# Altium footprint library Heat Sinks.PcbLib: 1 footprints
Each footprint in its own frame and in the unit in brackets; x right, y up, seen from the top. Pads: shape width x height; smd on the part's side, far side on the other; paste and mask are expansions set on the pad; w line width, h text height; cw(c..) or ccw(c..) is an arc to the next point about the centre after c.
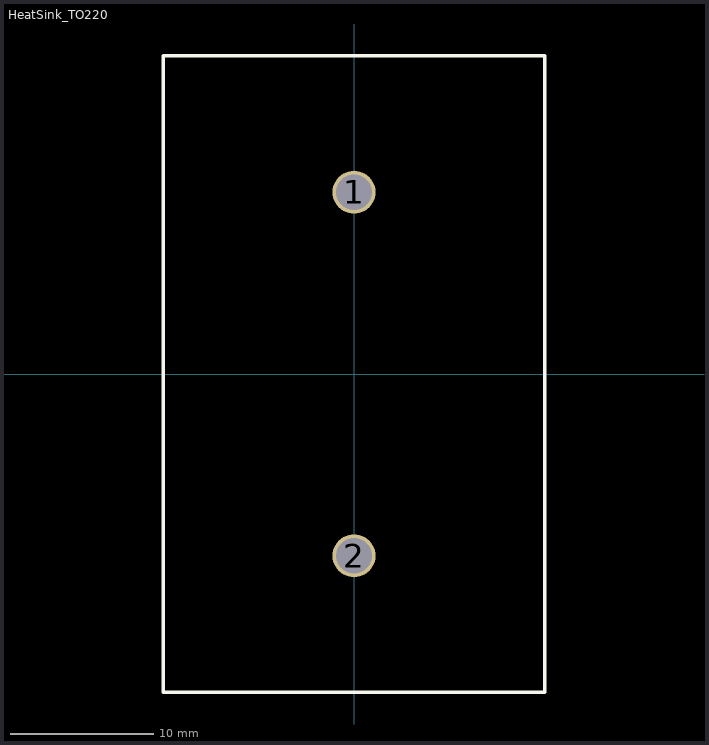
[diagram p0: the footprint, top view; thin cyan lines are the x and y axes]

## HeatSink_TO220 [mm]
pads (2):
  round 3 hole 2.5: 1(0,12.7) 2(0,-12.7)
Top Overlay:
  lines w0.254: -13.335,-22.225 13.335,-22.225 13.335,22.225 -13.335,22.225 -13.335,-22.225
3D body: height 50.8, standoff -3.96, extent -12.7,-20.925 12.7,20.925